# EAGLE library part LOATO (library LOATO)
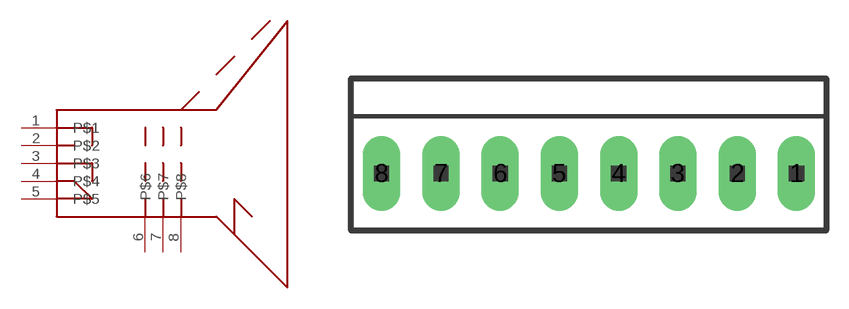
[diagram p0: symbol with the pads of LOATO; footprint LOATO]

Designator prefix -

## LOATO  [LOATO]
1  P$1
2  P$2
3  P$3
4  P$4
5  P$5
6  P$6
7  P$7
8  P$8

## Footprint LOATO (pad centres in mm)
drill 1.676 long: 1 13.868,-1.27; 2 9.906,-1.27; 3 5.944,-1.27; 4 1.981,-1.27; 5 -1.981,-1.27; 6 -5.944,-1.27; 7 -9.906,-1.27; 8 -13.868,-1.27